# Altium schematic symbol library AD7414ARTZ-1REEL7.SchLib: 1 symbol
Pins are listed as number, name and electrical type; pins without a type are passive.

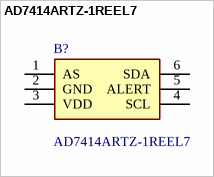
[diagram p0: symbol AD7414ARTZ-1REEL7]

## AD7414ARTZ-1REEL7
designator B?
10-bit temperature-to-digital converter  Temperature range: 40C to +125C  Typical accuracy of +/-0.5C at +40C  SMBus/I2C-compatible serial interface  3 A power-down current  Temperature conversion time: 29 s typ  Space-saving 6-lead (AD7414) and 5-lead (AD7415)  SOT-23 packages  Pin selectable addressing via AS  Overtemperature indicator (AD7414 Only)  SMBus alert function (AD7414 only)  4 versions allow 8 I2C addresses (AD7414)  2 versions allow 6 I2C addresses (AD7415); Manufacturer_Name: Analog Devices; Geometry.Height: 1.45mm; Manufacturer_Part_Number: AD7414ARTZ-1REEL7; Mouser Part Number: 584-AD7414ARTZ-1R7; Mouser Price/Stock: https://www.mouser.co.uk/ProductDetail/Analog-Devices/AD7414ARTZ-1REEL7?qs=NmRFExCfTkEOVHQ3uEvF5g%3D%3D; Arrow Part Number: AD7414ARTZ-1REEL7; Arrow Price/Stock: https://www.arrow.com/en/products/ad7414artz-1reel7/analog-devices?region=nac; Datasheet Link: https://www.analog.com/media/en/technical-documentation/data-sheets/AD7414_7415.pdf
footprint SOT95P280X145-6N
pins: 1 AS, 2 GND, 3 VDD, 4 SCL, 5 ALERT, 6 SDA